# Altium footprint library XGZP6897D.PcbLib: 1 footprints
Each footprint in its own frame and in the unit in brackets; x right, y up, seen from the top. Pads: shape width x height; smd on the part's side, far side on the other; paste and mask are expansions set on the pad; w line width, h text height; cw(c..) or ccw(c..) is an arc to the next point about the centre after c.
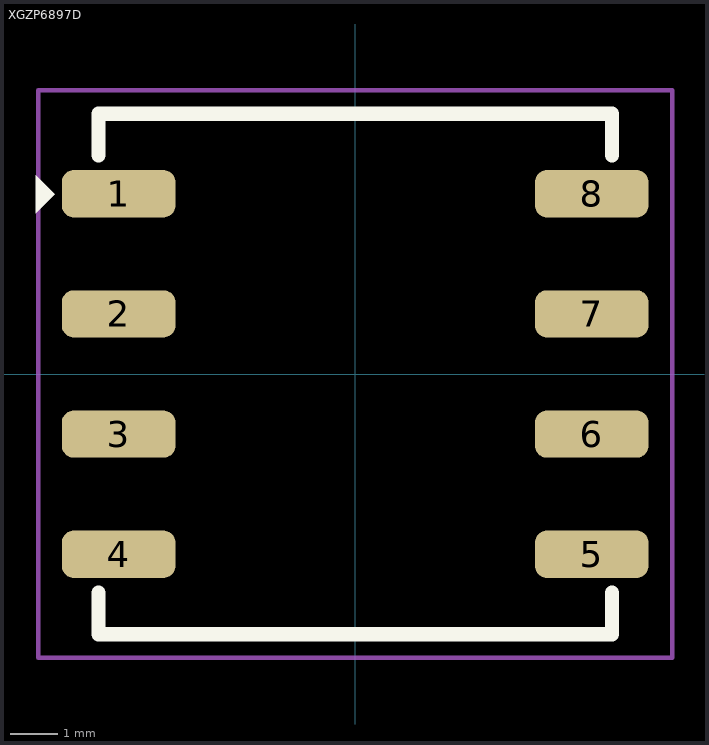
[diagram p0: the footprint, top view; thin cyan lines are the x and y axes]

## XGZP6897D [mm] "Pressure Sensor Module"
height 9.86
pads (8):
  rrect50% 2.4x1 smd: 1(-5,3.81) 2(-5,1.27) 3(-5,-1.27) 4(-5,-3.81) 5(5,-3.81) 6(5,-1.27) 7(5,1.27) 8(5,3.81)
Top Overlay:
  region: -6.75,3.4 -6.75,4.2 -6.35,3.8
  lines w0.3: -5.425,-4.625 -5.425,-5.5 5.425,-5.5 5.425,-4.625 ; -5.425,4.625 -5.425,5.5 5.425,5.5 5.425,4.625
Top Courtyard:
  lines w0.1: -6.7,-6 -6.7,6 6.7,6 6.7,-6 -6.7,-6
3D body "SPICS0017.STEP": height 9.91, standoff 0, extent -5.42,-5.5 5.42,5.5